# Altium footprint library GOSTInductor.PcbLib: 2 footprints
Each footprint in its own frame and in the unit in brackets; x right, y up, seen from the top. Pads: shape width x height; smd on the part's side, far side on the other; paste and mask are expansions set on the pad; w line width, h text height; cw(c..) or ccw(c..) is an arc to the next point about the centre after c.
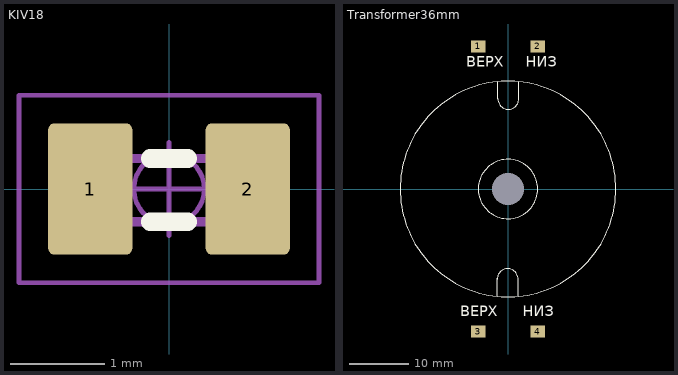
[diagram p0: the footprints below, top view; thin cyan lines are the x and y axes]

## KIV18 [mm]
height 0.8
pads (2):
  rrect15% 0.9x1.4 smd: 1(-0.84,0) 2(0.84,0)
Top Overlay:
  lines w0.2: -0.2,-0.35 0.2,-0.35 ; -0.2,0.325 0.2,0.325
Mechanical 10:
  text ".Comment" at -2.5,-2.5 h2
Mechanical 13:
  lines w0.1: -0.45,-0.35 0.45,-0.35 ; -0.45,0.325 0.45,0.325 ; -0.846,-0.437 -0.45,-0.437 -0.45,0.423 -0.846,0.423 -0.846,-0.437 ; 0.45,-0.437 0.864,-0.437 0.864,0.423 0.45,0.423 0.45,-0.437
  text ".Designator" at -5.1,1.9 h3.5
Mechanical 15:
  circle w0.05: c0,0 r0.375
  lines w0.05: -0.5,0 0.5,0 ; 0,-0.5 0,0.5 ; -1.6,-1 1.6,-1 1.6,1 -1.6,1 -1.6,-1
3D body "КИВ18.STEP": height 0.73, standoff -0.03, extent -0.855,-0.43 0.855,0.43

## Transformer36mm [mm]
pads (5):
  rect 2.5x2 smd: 1(-5,24) 2(5,24) 3(-5,-24) 4(5,-24)
  round 0 hole 5.4: ""(0,0)
Top Overlay:
  circle w0.2: c0,0 r18.15
  circle w0.2: c0,0 r5
  lines w0.2: -1.8,-18 -1.8,-15 ; -1.8,-15.2 cw(c-0.05,-15.144) 1.7,-15.2 1.7,-18 ; -1.7,18 -1.7,15.2 ccw(c0.05,15.144) 1.8,15.2 ; 1.8,15 1.8,18
  text "НИЗ" at 3,20 h3
  text "ВЕРХ" at -7,20 h3
  text "ВЕРХ" at -8,-22 h3
  text "НИЗ" at 2.5,-22 h3
3D body "Чашечный трансформатор.STEP": height 25.53, standoff -5.5, extent -18.05,-17.989 18.15,17.989